# Altium integrated library Project_Parts.IntLib: 7 symbols
Pins are listed as number, name and electrical type; pins without a type are passive.

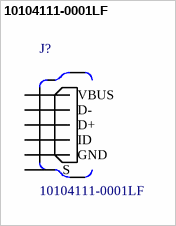
[diagram p0: symbol 10104111-0001LF]

## 10104111-0001LF
designator J?
Micro Usb, 2.0 Type Ab, Receptacle, Th; MF: Amphenol ICC; Package: None; Price: None; Availability: Unavailable; MP: 10104111-0001LF; SnapEDA_Link: https://www.snapeda.com/parts/10104111-0001LF/Amphenol%20ICC/view-part/?ref=snap; Value: *
footprint *FRAMATOME_10104111-0001LF
pins: 1 VBUS (power), 2 D-, 3 D+, 4 ID, 5 GND (power), 6 S (power), 7 S (power), 8 S (power), 9 S (power)


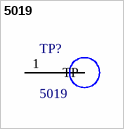
[diagram p1: symbol 5019]

## 5019
designator TP?
Phosphor Bronze Contact Miniature Silver Plated Surface Mount Test Points; MF: Keystone Electronics; Package: 2010 Keystone; Price: None; Availability: Unavailable; MP: 5019; SnapEDA_Link: https://www.snapeda.com/parts/5019/Keystone%20Electronics/view-part/?ref=snap; Value: *
footprint *TP380X203
pins: 1 TP


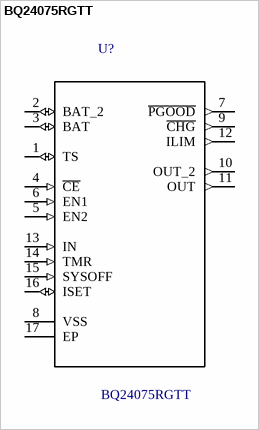
[diagram p2: symbol BQ24075RGTT]

## BQ24075RGTT
designator U?
USB-Friendly Li-Ion Battery Charger and Power-Path Management IC, Vout 5.5V 16-QFN -40 to 85; MF: Texas Instruments; SnapEDA_Link: https://www.snapeda.com/parts/BQ24075RGTT/Texas%20Instruments/view-part/?ref=snap; Availability: Unavailable; Price: None; MP: BQ24075RGTT; Package: QFN-16 Texas Instruments; Value: *
footprint *QFN50P300X300X100-17N
pins: 1 TS (io), 2 BAT_2 (io), 3 BAT (io), 4 ~{CE} (in), 5 EN2 (in), 6 EN1 (in), 7 ~{PGOOD} (out), 8 VSS, 9 ~{CHG} (out), 10 OUT_2 (out), 11 OUT (out), 12 ILIM (out), 13 IN (in), 14 TMR (in), 15 SYSOFF (in), 16 ISET (io), 17 EP


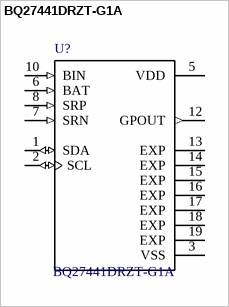
[diagram p3: symbol BQ27441DRZT-G1A]

## BQ27441DRZT-G1A
designator U?
System-Side Impedance Track? Battery Fuel _Gas_ Gauge 12-SON -40 to 85; MF: Texas Instruments; Package: SON-12 Texas Instruments; Price: None; Availability: Unavailable; MP: BQ27441DRZT-G1A; SnapEDA_Link: https://www.snapeda.com/parts/BQ27441DRZT-G1A/Texas%20Instruments/view-part/?ref=snap; Value: *
footprint *SON40P400X250X100-13N
pins: 1 SDA (io), 2 SCL (io), 3 VSS (power), 5 VDD (power), 6 BAT (in), 7 SRN (in), 8 SRP (in), 10 BIN (in), 12 GPOUT (out), 13 EXP (power), 14 EXP (power), 15 EXP (power), 16 EXP (power), 17 EXP (power), 18 EXP (power), 19 EXP (power)


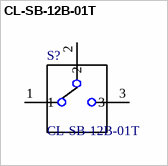
[diagram p4: symbol CL-SB-12B-01T]

## CL-SB-12B-01T
designator S?
Switch Slide N.O./N.C. SPDT Top Slide 0.2A 12VDC Gull Wing SMD T/R; MF: Nidec Copal; SnapEDA_Link: https://www.snapeda.com/parts/CL-SB-12B-01T/Nidec%20Copal%20Electronics/view-part/?ref=snap; Availability: Unavailable; Price: None; MP: CL-SB-12B-01T; Package: None; Value: *
footprint *CL-SB-12B
pins: 1 (io), 2 (io), 3 (io)


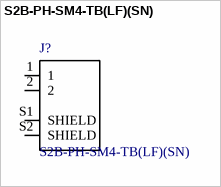
[diagram p5: symbol S2B-PH-SM4-TB(LF)(SN)]

## S2B-PH-SM4-TB(LF)(SN)
designator J?
PH Series 2 Position 2 mm Pitch Surface Mount Side Entry Shrouded Header; MF: JST Sales; MP: S2B-PH-SM4-TB_LF__SN_; SnapEDA_Link: https://www.snapeda.com/parts/S2B-PH-SM4-TB%28LF%29%28SN%29/JST%20Sales%20America%20Inc./view-part/?ref=snap; Availability: Unavailable; Price: None; Package: None; Value: *
footprint *JST_S2B-PH-SM4-TB(LF)(SN)_S2B-PH-SM4-TB(LF)(SN)(Primary)
pins: 1, 2, S1 SHIELD, S2 SHIELD


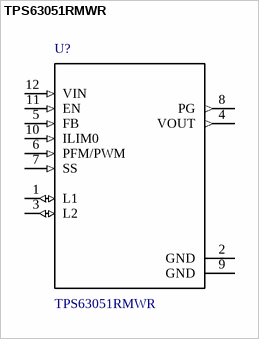
[diagram p6: symbol TPS63051RMWR]

## TPS63051RMWR
designator U?
Tiny Single Inductor Buck Boost Converter 12-VQFN -40 to 85; MF: Texas Instruments; Package: VQFN-12 Texas Instruments; Price: None; Availability: Unavailable; MP: TPS63051RMWR; SnapEDA_Link: https://www.snapeda.com/parts/TPS63051RMWR/Texas%20Instruments/view-part/?ref=snap; Value: *
footprint *QFN50P250X250X100-12N
pins: 1 L1 (io), 2 GND (power), 3 L2 (io), 4 VOUT (out), 5 FB (in), 6 PFM/PWM (in), 7 SS (in), 8 PG (out), 9 GND (power), 10 ILIM0 (in), 11 EN (in), 12 VIN (in)